# Altium schematic symbol library GRM0335C1H220JA01D.SchLib: 1 symbol
Pins are listed as number, name and electrical type; pins without a type are passive.

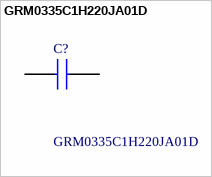
[diagram p0: symbol GRM0335C1H220JA01D]

## GRM0335C1H220JA01D
designator C?
Murata 0201 GRM 22pF Ceramic Multilayer Capacitor, 50 V, +125C, C0G Dielectric, +/-5% SMD; Manufacturer_Name: Murata Electronics; Geometry.Height: 0.33mm; Manufacturer_Part_Number: GRM0335C1H220JA01D; Mouser Part Number: 81-GRM0335C1H220JA1D; Mouser Price/Stock: https://www.mouser.co.uk/ProductDetail/Murata-Electronics/GRM0335C1H220JA01D?qs=WjGk7BNrzSHTRrKAPPVL5w%3D%3D; Arrow Part Number: GRM0335C1H220JA01D; Arrow Price/Stock: https://www.arrow.com/en/products/grm0335c1h220ja01d/murata-manufacturing; Datasheet Link: https://search.murata.co.jp/Ceramy/image/img/A01X/G101/ENG/GRM0335C1H220JA01-01A.pdf
footprint CAPC0603X33N
pins: 1, 2